# Altium footprint library DDS_PCB.PcbLib: 28 footprints (part 1 of 2)
Each footprint in its own frame and in the unit in brackets; x right, y up, seen from the top. Pads: shape width x height; smd on the part's side, far side on the other; paste and mask are expansions set on the pad; w line width, h text height; cw(c..) or ccw(c..) is an arc to the next point about the centre after c.
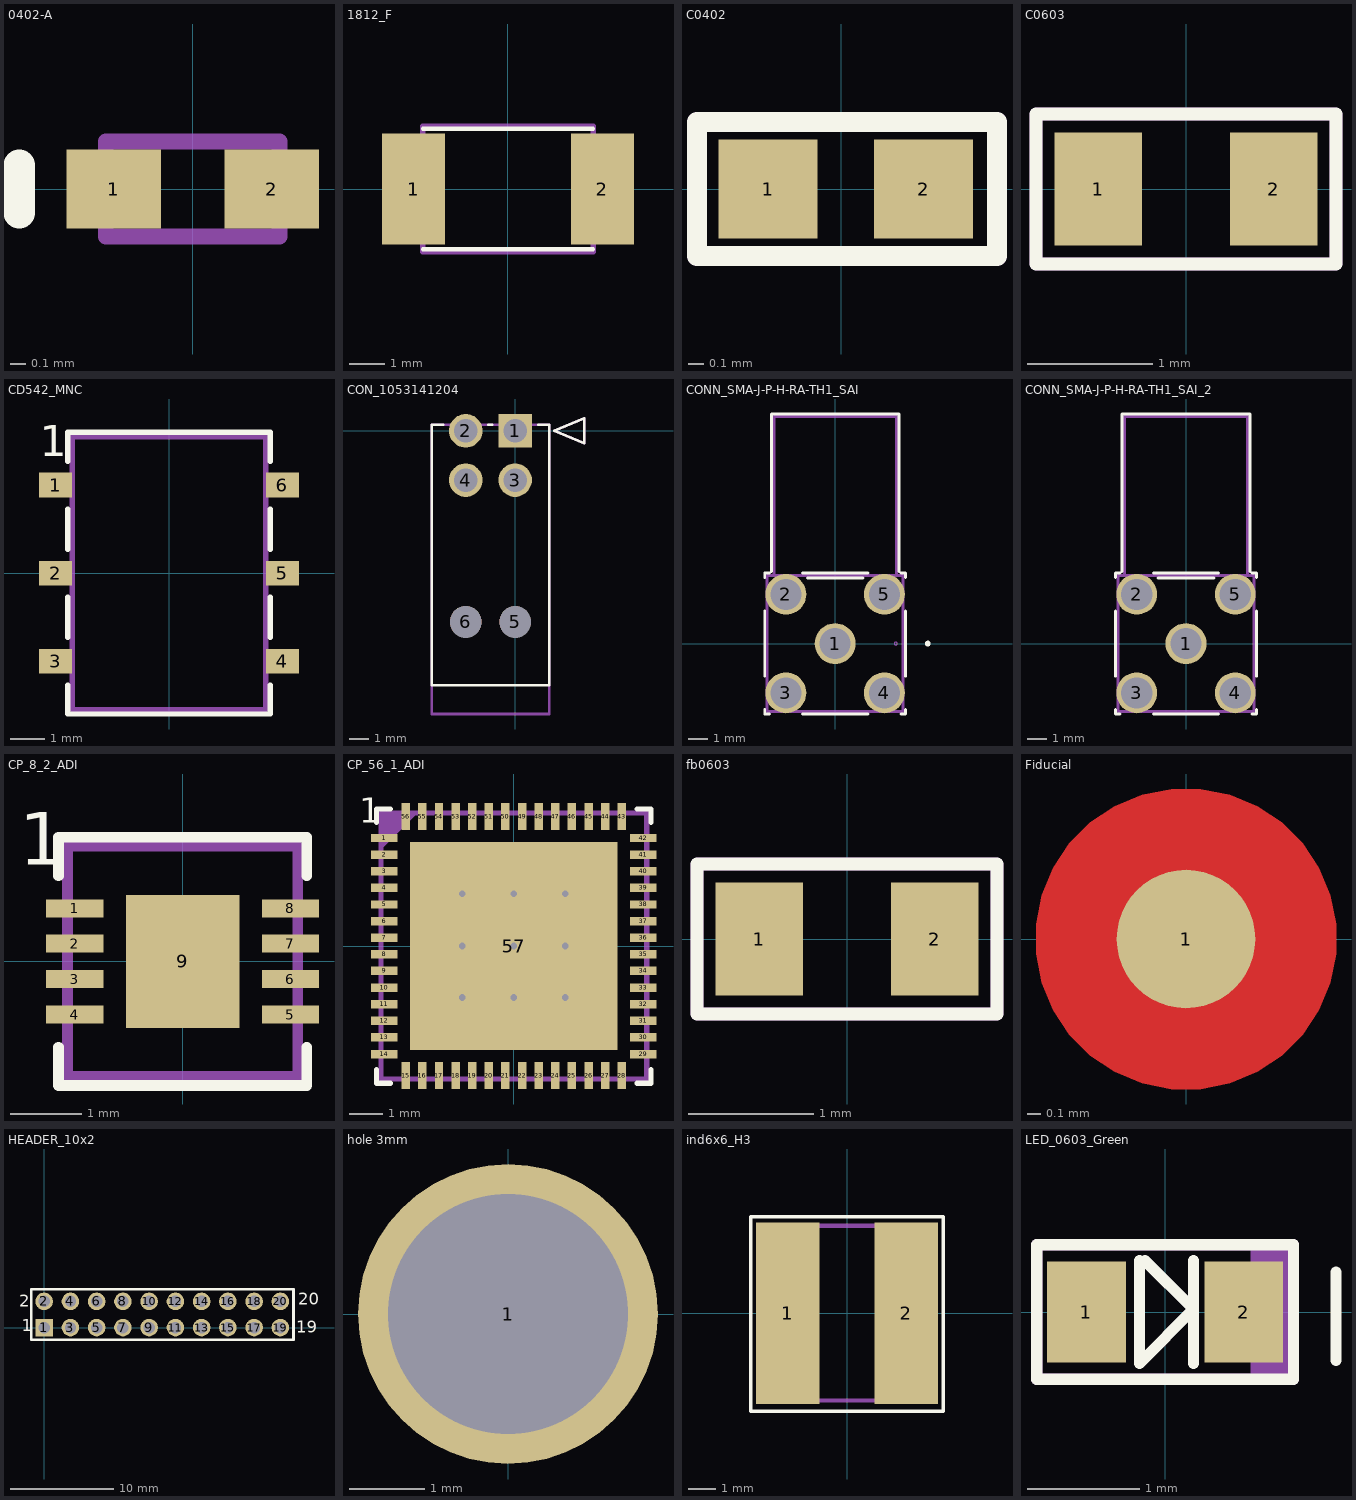
[diagram p0: the footprints below, top view; thin cyan lines are the x and y axes]

## 0402-A [mm] "Chip Inductor, Body 1.0x0.5mm, IPC High Density"
height 0.55
pads (2):
  rect 0.6x0.5 smd mask+0.051: 1(-0.5,0) 2(0.5,0)
Top Overlay:
  lines w0.2: -1.1,-0.15 -1.1,0.15
Top Assembly:
  lines w0.1: -0.55,-0.3 -0.55,0.3 0.55,0.3 0.55,-0.3 -0.55,-0.3
  text ".Designator" at -1.138,-0.114 h0.51
3D body: height 0.55, standoff 0, extent -0.55,-0.3 0.55,0.3

## 1812_F [mm] "PTC RESETTABLE 33V 1.10A 1812L"
pads (2):
  rect 1.78x3.15 smd mask+0.051: 1(-2.665,0) 2(2.665,0)
Top Overlay:
  lines w0.12: -2.4,-1.7 2.4,-1.7 ; -2.4,1.7 2.4,1.7
Top Assembly:
  lines w0.152: -2.413,-1.778 -2.413,1.778 2.413,1.778 2.413,-1.778 -2.413,-1.778
  text ".Designator" at -2.861,-0.287 h1.27
3D body "SW3dPS-Fuse 1812.STEP": height 1.03, standoff 0, extent -2.365,-1.74 2.37,1.74

## C0402 [mil]
pads (2):
  rect 25x25 smd mask+2: 1(-18.5,0) 2(20.9,0)
Top Overlay:
  lines w5: -36.5,-17 39.5,-17 39.5,17 36.5,17 -36.5,17 -36.5,-17
Top Assembly:
  lines w5: -36.5,-17 39.5,-17 39.5,17 -36.5,17 -36.5,-17
  text ".Designator" at -67.53,-6.78 h30
Mechanical 18:
  text "1" at -18.5,-10 h25
3D body "SW3dPS-0402 SMD Capacitor.STEP": height 7.95, standoff 0, extent -19.68,-11.81 19.69,11.81

## C0603 [mm]
pads (2):
  rect 0.7x0.9 smd mask+0.051: 1(-0.7,0) 2(0.7,0)
Top Overlay:
  lines w0.102: -1.2,-0.6 -1.2,0.6 1.2,0.6 1.2,-0.6 -1.2,-0.6
Top Assembly:
  lines w0.102: -1.2,-0.6 -1.2,0.6 1.2,0.6 1.2,-0.6 -1.2,-0.6
  text ".Designator" at -1.715,-0.172 h0.76
3D body "SW3dPS-0603 SMD Capacitor.STEP": height 0.3, standoff 0, extent -0.8,-0.4 0.8,0.4

## CD542_MNC [mm]
pads (6):
  rect 0.96x0.712 smd paste+0 mask+0.051: 1(-3.274,2.54) 2(-3.274,0) 3(-3.274,-2.54) 4(3.274,-2.54) 5(3.274,0) 6(3.274,2.54)
Top Overlay:
  lines w0.152: -2.921,-3.229 -2.921,-4.064 2.921,-4.064 2.921,-3.229 ; -2.921,-1.851 -2.921,-0.689 ; -2.921,0.689 -2.921,1.851 ; -2.921,3.229 -2.921,4.064 2.921,4.064 2.921,3.229 ; 2.921,-1.851 2.921,-0.689 ; 2.921,0.689 2.921,1.851
  text "1" at -3.736,3.067 h1.52
Top Assembly:
  lines w0.152: -2.794,-3.937 2.794,-3.937 2.794,3.937 -2.794,3.937 -2.794,-3.937
  text "1" at -3.609,2.686 h1.52
  text ".Designator" at -2.861,-0.287 h1.27
3D body "CD542_MNC.step": height 2.85, standoff 0, extent -3.454,-3.937 3.454,3.937

## CON_1053141204 [mm]
pads (6):
  rect 1.7x1.7 hole 1.2 mask+0.076: 1(0,0)
  round 1.7 hole 1.2 mask+0.076: 2(-2.5,0) 3(0,-2.5) 4(-2.5,-2.5)
  round 1.6 hole 1.6 unplated mask+0.076: 5(0,-9.68) 6(-2.5,-9.68)
Top Overlay:
  lines w0.127: -3.628,0.31 -4.22,0.31 -4.22,-12.88 1.72,-12.88 1.72,0.31 1.17,0.31 ; -1.372,0.31 -1.17,0.31 ; 1.974,0 3.498,-0.635 3.498,0.635 1.974,0
Top Assembly:
  lines w0.127: -4.22,-14.34 -4.22,0.318 1.72,0.318 1.72,-14.34 -4.22,-14.34 ; 1.974,0 3.498,-0.635 3.498,0.635 1.974,0
  text ".Designator" at -4.258,-5.113 h1.27
3D body "1053141204--3DModel-STEP-390490.STEP": height 8.85, standoff -3.49, extent -4.24,-14.199 1.7,0.459
3D body: height 0.25, standoff 0, extent 0,0 0.254,0.254

## CONN_SMA-J-P-H-RA-TH1_SAI [mil]
pads (5):
  round 83 hole 63 mask+0: 1(0,0) 2(-100,100) 3(-100,-100) 4(100,-100) 5(100,100)
Top Overlay:
  circle w6: c188,0 r3
  lines w6: -143,-133.65 -143,-143 -133.65,-143 ; -143,-66.35 -143,66.35 ; -143,133.65 -143,143 -133.65,143 ; -129.5,145.94 -129.5,466 129.5,466 129.5,145.94 ; -66.35,-143 66.35,-143 ; -66.35,143 66.35,143 ; -56.5,133 56.5,133 ; 133.65,-143 143,-143 143,-133.65 ; 133.65,143 143,143 143,133.65 ; 143,-66.35 143,66.35
Top Assembly:
  lines w6: -138,-138 -138,138 138,138 138,-138 -138,-138 ; -124.5,138 -124.5,461 124.5,461 124.5,138 -124.5,138
  text ".Designator" at -135.05,-13.56 h60
Mechanical 13:
  circle w0: c123,0 r3
3D body: height 10, standoff 0, extent 0,0 10,10
3D body "SMA-J-P-GF-RA-SM1.stp": height 371.8, standoff -16.39, extent -135.59,-137.24 140,457.24

## CONN_SMA-J-P-H-RA-TH1_SAI_2 [mil]
pads (5):
  round 83 hole 63 mask+0: 1(0,0) 2(-100,100) 3(-100,-100) 4(100,-100) 5(100,100)
Top Overlay:
  lines w6: -143,-133.65 -143,-143 -133.65,-143 ; -143,-66.35 -143,66.35 ; -143,133.65 -143,143 -133.65,143 ; -129.5,145.94 -129.5,466 129.5,466 129.5,145.94 ; -66.35,-143 66.35,-143 ; -66.35,143 66.35,143 ; -56.5,133 56.5,133 ; 133.65,-143 143,-143 143,-133.65 ; 133.65,143 143,143 143,133.65 ; 143,-66.35 143,66.35
Top Assembly:
  lines w6: -138,-138 -138,138 138,138 138,-138 -138,-138 ; -124.5,138 -124.5,461 124.5,461 124.5,138 -124.5,138
  text ".Designator" at -135.05,-13.56 h60
3D body "SMA-J-P-GF-RA-SM1.stp": height 371.8, standoff -16.39, extent -135.59,-137.24 140,457.24
3D body: height 10, standoff 0, extent 0,0 10,10

## CP_8_2_ADI [mm]
pads (9):
  rect 0.808x0.255 smd paste+0 mask+0.051: 1(-1.522,0.75) 2(-1.522,0.25) 3(-1.522,-0.25) 4(-1.522,-0.75) 5(1.522,-0.75) 6(1.522,-0.25) 7(1.522,0.25) 8(1.522,0.75)
  rect 1.6x1.88 smd paste+0 mask+0.051: 9(0,0)
Top Overlay:
  lines w0.152: -1.753,-1.21 -1.753,-1.753 1.753,-1.753 1.753,-1.21 ; -1.753,1.21 -1.753,1.753 1.753,1.753 1.753,1.21
  text "1" at -2.309,1.116 h1.27
Top Assembly:
  lines w0.152: -1.626,-1.626 1.626,-1.626 1.626,1.626 -1.626,1.626 -1.626,-1.626
  text "1" at -2.212,0.781 h1.52
  text ".Designator" at -2.861,-0.287 h1.27
3D body "CP_8_2_ADI.step": height 0.84, standoff 0, extent -1.626,-1.626 1.626,1.626

## CP_56_1_ADI [mm]
pads (57):
  rect 0.808x0.255 smd paste+0 mask+0.051: 1(-3.896,3.25) 2(-3.896,2.75) 3(-3.896,2.25) 4(-3.896,1.75) 5(-3.896,1.25) 6(-3.896,0.75) 7(-3.896,0.25) 8(-3.896,-0.25) 9(-3.896,-0.75) 10(-3.896,-1.25) 11(-3.896,-1.75) 12(-3.896,-2.25) 13(-3.896,-2.75) 14(-3.896,-3.25) 29(3.896,-3.25) 30(3.896,-2.75) 31(3.896,-2.25) 32(3.896,-1.75) 33(3.896,-1.25) 34(3.896,-0.75) 35(3.896,-0.25) 36(3.896,0.25) 37(3.896,0.75) 38(3.896,1.25) 39(3.896,1.75) 40(3.896,2.25) 41(3.896,2.75) 42(3.896,3.25)
  rect 0.255x0.808 smd paste+0 mask+0.051: 15(-3.25,-3.896) 16(-2.75,-3.896) 17(-2.25,-3.896) 18(-1.75,-3.896) 19(-1.25,-3.896) 20(-0.75,-3.896) 21(-0.25,-3.896) 22(0.25,-3.896) 23(0.75,-3.896) 24(1.25,-3.896) 25(1.75,-3.896) 26(2.25,-3.896) 27(2.75,-3.896) 28(3.25,-3.896) 43(3.25,3.896) 44(2.75,3.896) 45(2.25,3.896) 46(1.75,3.896) 47(1.25,3.896) 48(0.75,3.896) 49(0.25,3.896) 50(-0.25,3.896) 51(-0.75,3.896) 52(-1.25,3.896) 53(-1.75,3.896) 54(-2.25,3.896) 55(-2.75,3.896) 56(-3.25,3.896)
  rect 6.248x6.248 smd paste-3.111 mask+0.051: 57(0,0)
via -1.549,-1.549 diameter 0.406 hole 0.203
via 1.549,-1.549 diameter 0.406 hole 0.203
via 0,-1.549 diameter 0.406 hole 0.203
via -1.549,1.575 diameter 0.406 hole 0.203
via 1.549,1.575 diameter 0.406 hole 0.203
via 0,1.575 diameter 0.406 hole 0.203
via -1.549,0 diameter 0.406 hole 0.203
via 1.549,0 diameter 0.406 hole 0.203
via 0,0 diameter 0.406 hole 0.203
Top Overlay:
  lines w0.152: -4.127,-3.71 -4.127,-4.127 -3.71,-4.127 ; -4.127,3.71 -4.127,4.127 -3.71,4.127 ; 3.71,-4.127 4.127,-4.127 4.127,-3.71 ; 3.71,4.127 4.127,4.127 4.127,3.71
  text "1" at -4.648,3.454 h1.27
Top Paste:
  region: 3.024,-1.662 1.662,-1.662 1.662,-3.024 3.024,-3.024
  region: 3.024,-0.1 1.662,-0.1 1.662,-1.462 3.024,-1.462
  region: 3.024,1.462 1.662,1.462 1.662,0.1 3.024,0.1
  region: 3.024,3.024 1.662,3.024 1.662,1.662 3.024,1.662
  region: 1.462,-1.662 0.1,-1.662 0.1,-3.024 1.462,-3.024
  region: 1.462,-0.1 0.1,-0.1 0.1,-1.462 1.462,-1.462
  region: 1.462,1.462 0.1,1.462 0.1,0.1 1.462,0.1
  region: 1.462,3.024 0.1,3.024 0.1,1.662 1.462,1.662
  region: -0.1,-1.662 -1.462,-1.662 -1.462,-3.024 -0.1,-3.024
  region: -0.1,-0.1 -1.462,-0.1 -1.462,-1.462 -0.1,-1.462
  region: -0.1,1.462 -1.462,1.462 -1.462,0.1 -0.1,0.1
  region: -0.1,3.024 -1.462,3.024 -1.462,1.662 -0.1,1.662
  region: -1.662,-1.662 -3.024,-1.662 -3.024,-3.024 -1.662,-3.024
  region: -1.662,-0.1 -3.024,-0.1 -3.024,-1.462 -1.662,-1.462
  region: -1.662,1.462 -3.024,1.462 -3.024,0.1 -1.662,0.1
  region: -1.662,3.024 -3.024,3.024 -3.024,1.662 -1.662,1.662
Top Assembly:
  lines w0.152: -4,-4 -4,4 4,4 4,-4 -4,-4 ; -4,-3.402 -4,-3.098 -4,-3.402 ; -4,-2.902 -4,-2.598 -4,-2.902 ; -4,-2.402 -4,-2.098 -4,-2.402 ; -4,-1.902 -4,-1.598 -4,-1.902 ; -4,-1.402 -4,-1.098 -4,-1.402 ; -4,-0.902 -4,-0.598 -4,-0.902 ; -4,-0.402 -4,-0.098 -4,-0.402 ; -4,0.098 -4,0.402 -4,0.098 ; -4,0.598 -4,0.902 -4,0.598 ; -4,1.098 -4,1.402 -4,1.098 ; -4,1.598 -4,1.902 -4,1.598 ; -4,2.098 -4,2.402 -4,2.098 ; -4,2.598 -4,2.902 -4,2.598 ; -3.402,-4 -3.098,-4 -3.402,-4 ; -2.902,-4 -2.598,-4 -2.902,-4 ; -2.902,4 -2.598,4 -2.902,4 ; -2.402,-4 -2.098,-4 -2.402,-4 ; -2.402,4 -2.098,4 -2.402,4 ; -1.902,-4 -1.598,-4 -1.902,-4 ; -1.902,4 -1.598,4 -1.902,4 ; -1.402,-4 -1.098,-4 -1.402,-4 ; -1.402,4 -1.098,4 -1.402,4 ; -0.902,-4 -0.598,-4 -0.902,-4 ; -0.902,4 -0.598,4 -0.902,4 ; -0.402,-4 -0.098,-4 -0.402,-4 ; -0.402,4 -0.098,4 -0.402,4 ; 0.098,-4 0.402,-4 0.098,-4 ; 0.098,4 0.402,4 0.098,4 ; 0.598,-4 0.902,-4 0.598,-4 ; 0.598,4 0.902,4 0.598,4 ; 1.098,-4 1.402,-4 1.098,-4 ; 1.098,4 1.402,4 1.098,4 ; 1.598,-4 1.902,-4 1.598,-4 ; 1.598,4 1.902,4 1.598,4 ; 2.098,-4 2.402,-4 2.098,-4 ; 2.098,4 2.402,4 2.098,4 ; 2.598,-4 2.902,-4 2.598,-4 ; 2.598,4 2.902,4 2.598,4 ; 3.098,-4 3.402,-4 3.098,-4 ; 3.098,4 3.402,4 3.098,4 ; 4,-3.402 4,-3.098 4,-3.402 ; 4,-2.902 4,-2.598 4,-2.902 ; 4,-2.402 4,-2.098 4,-2.402 ; 4,-1.902 4,-1.598 4,-1.902 ; 4,-1.402 4,-1.098 4,-1.402 ; 4,-0.902 4,-0.598 4,-0.902 ; 4,-0.402 4,-0.098 4,-0.402 ; 4,0.098 4,0.402 4,0.098 ; 4,0.598 4,0.902 4,0.598 ; 4,1.098 4,1.402 4,1.098 ; 4,1.598 4,1.902 4,1.598 ; 4,2.098 4,2.402 4,2.098 ; 4,2.598 4,2.902 4,2.598 ; 4,3.098 4,3.402 4,3.098
  text ".Designator" at -3.43,-0.344 h1.52
  text "1" at -4.625,2.94 h1.52
Mechanical 13:
  region: -4,2.902 -4,4 -2.902,4
3D body "CP_56_1_ADI.step": height 0.99, standoff 0, extent -4,-4 4,4

## fb0603 [mm]
pads (2):
  rect 0.7x0.9 smd mask+0.051: 1(-0.7,0) 2(0.7,0)
Top Overlay:
  lines w0.102: -1.2,-0.6 -1.2,0.6 1.2,0.6 1.2,-0.6 -1.2,-0.6
Top Assembly:
  lines w0.102: -1.2,-0.6 1.2,-0.6 1.2,0.6 -1.2,0.6 -1.2,-0.6
  text ".Designator" at -1.715,-0.172 h0.76
3D body: height 0.8, standoff 0, extent 0.356,-0.381 0.762,0.381
3D body: height 0.8, standoff 0, extent -0.356,-0.381 0.356,0.381
3D body: height 0.8, standoff 0, extent -0.762,-0.381 -0.356,0.381

## Fiducial [mil]
pads (1):
  round 40 smd mask+20: 1(0,0)
Top Layer:
  pour cut-out: 43.31,0 43.31,4.27 41.64,12.63 38.38,20.51 33.64,27.61 27.61,33.64 20.51,38.38 12.63,41.64 4.27,43.31 0,43.31 -4.27,43.31 -12.63,41.64 -20.51,38.38 -27.61,33.64 -33.64,27.61 -38.38,20.51 -41.64,12.63 -43.31,4.27 -43.31,0 -43.31,-4.27 -41.64,-12.63 -38.38,-20.51 -33.64,-27.61 -27.61,-33.64 -20.51,-38.38 -12.63,-41.64 -4.27,-43.31 0,-43.31 4.27,-43.31 12.63,-41.64 20.51,-38.38 27.61,-33.64 33.64,-27.61 38.38,-20.51 41.64,-12.63 43.31,-4.27

## HEADER_10x2 [mm]
pads (20):
  rect 1.7x1.7 hole 1.1 mask+0.05: 1(0,0)
  round 1.7 hole 1.1 mask+0.05: 2(0,2.54) 3(2.54,0) 4(2.54,2.54) 5(5.08,0) 6(5.08,2.54) 7(7.62,0) 8(7.62,2.54) 9(10.16,0) 10(10.16,2.54) 11(12.7,0) 12(12.7,2.54) 13(15.24,0) 14(15.24,2.54) 15(17.78,0) 16(17.78,2.54) 17(20.32,0) 18(20.32,2.54) 19(22.86,0) 20(22.86,2.54)
Top Overlay:
  lines w0.254: -1.27,-1.168 24.13,-1.168 24.13,3.708 -1.27,3.708 -1.27,-1.168
  text "1" at -2.159,-0.737 h2
  text "2" at -2.438,1.651 h2
  text "20" at 24.6,1.8 h2
  text "19" at 24.4,-0.9 h2
Top Assembly:
  lines w0.152: -1.27,-1.168 -1.27,3.708 24.13,3.708 24.13,-1.168 -1.27,-1.168
  text "2" at -0.832,2.051 h1.52
  text "1" at -0.688,-0.616 h1.52
  text ".Designator" at 7.365,0.926 h1.52
3D body "901310770.stp": height 7.75, standoff -4.4, extent -1.27,-1.27 24.13,3.81

## hole 3mm [mm] "hole 3mm"
pads (1):
  round 4 hole 3.2: 1(0,0)

## ind6x6_H3 [mm]
pads (2):
  rect 2.3x6.6 smd mask+0.051: 1(-2.15,0) 2(2.15,0)
Top Overlay:
  lines w0.12: 3.5,3.474 3.5,-3.556 -3.5,-3.556 -3.5,3.5 3.5,3.5
Top Assembly:
  lines w0.152: -3.048,-3.175 3.175,-3.175 3.175,3.175 -3.048,3.175 -3.048,-3.175
  text ".Designator" at -3.43,-0.344 h1.52
3D body "Coilcraft-LPS6235-DEFAULT.STEP": height 3.5, standoff 0, extent -3.103,-3.103 3.103,3.103

## LED_0603_Green [mm] "LED 0603, Green"
pads (2):
  rect 0.7x0.9 smd mask+0.051: 1(-0.7,0) 2(0.7,0)
Top Overlay:
  lines w0.1: -0.229,0.457 -0.229,-0.457 0.254,0.025 -0.178,0.457 ; 0.254,-0.457 0.254,0.457 ; 1.524,-0.432 1.524,0.356
  lines w0.102: -1.145,-0.6 -1.145,0.6 1.145,0.6 1.145,-0.6 -1.145,-0.6
Top Assembly:
  rectangle: 0.762,-0.635 1.145,0.6
  lines w0.102: -1.145,-0.6 1.145,-0.6 1.145,0.6 -1.145,0.6 -1.145,-0.6
  text ".Designator" at -2.284,-0.229 h1.02
3D body "2610002_LED SMD-0603(Green).stp": height 0.7, standoff -0.01, extent -0.8,-0.4 0.8,0.4